# Altium footprint library PB114.PcbLib: 1 footprints
Each footprint in its own frame and in the unit in brackets; x right, y up, seen from the top. Pads: shape width x height; smd on the part's side, far side on the other; paste and mask are expansions set on the pad; w line width, h text height; cw(c..) or ccw(c..) is an arc to the next point about the centre after c.
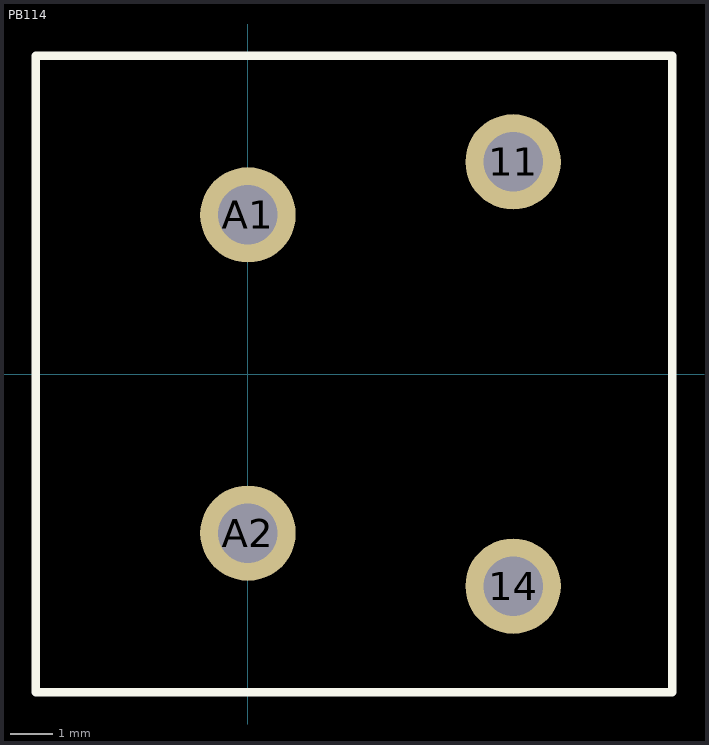
[diagram p0: the footprint, top view; thin cyan lines are the x and y axes]

## PB114 [mm] "TE Connectivity Power Relay"
height 20
pads (4):
  round 2.25 hole 1.4: 11(6.25,5) 14(6.25,-5) A1(0,3.75) A2(0,-3.75)
Top Overlay:
  lines w0.2: -5,-7.5 -5,7.5 10,7.5 10,-7.5 -5,-7.5
3D body: height 20, standoff -3.7, extent -5.036,-7.525 9.964,7.475